# EAGLE library part CD40109 (library audioint)
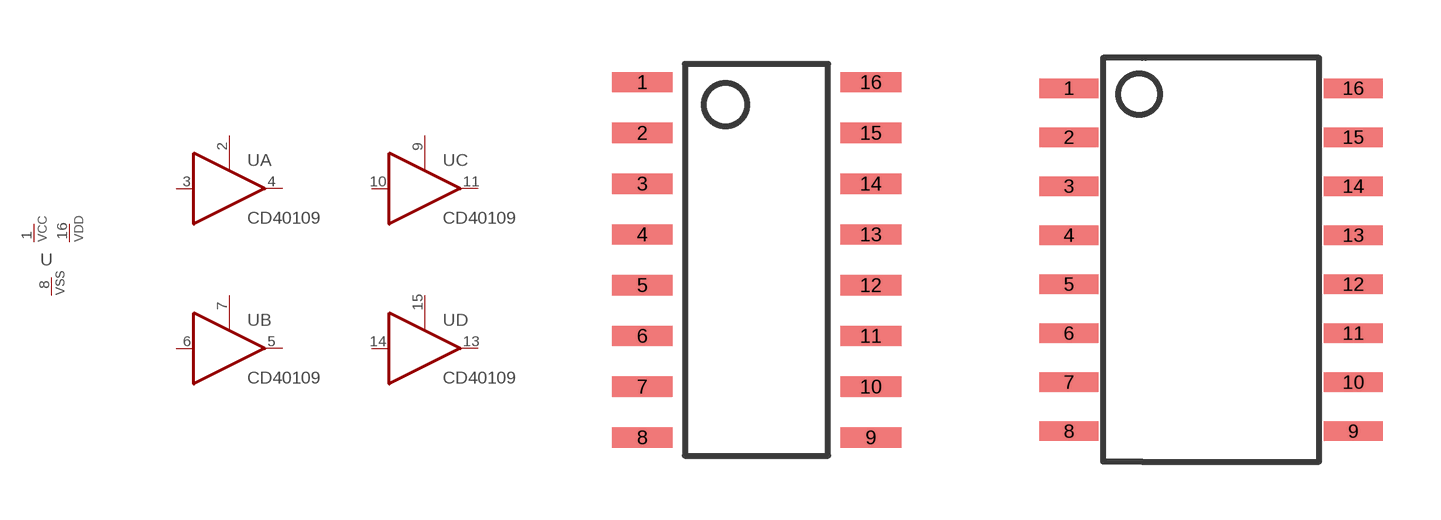
[diagram p31: symbol with the pads of 16-SOIC; footprints 16-SOIC, 16-SOIC/WIDE]

Designator prefix U; gates G$1=VCC/VSS/VDD A=74126 C=74126 D=74126 B=74126

## CD4010916-SOIC  [16-SOIC]
1  G$1:VCC  pwr
2  A:OE  in
3  A:I  in
4  A:O  out
5  B:O  out
6  B:I  in
7  B:OE  in
8  G$1:VSS  pwr
9  C:OE  in
10  C:I  in
11  C:O  out
13  D:O  out
14  D:I  in
15  D:OE  in
16  G$1:VDD  pwr

## CD40109WIDE  [16-SOIC/WIDE]
Pads as for 16-SOIC

## Footprint 16-SOIC (pad centres in mm)
smd 1.524 x 0.508: 1 -2.857,4.445; 2 -2.857,3.175; 3 -2.857,1.905; 4 -2.857,0.635; 5 -2.857,-0.635; 6 -2.857,-1.905; 7 -2.857,-3.175; 8 -2.857,-4.445; 9 2.857,-4.445; 10 2.857,-3.175; 11 2.857,-1.905; 12 2.857,-0.635; 13 2.857,0.635; 14 2.857,1.905; 15 2.857,3.175; 16 2.857,4.445

## Footprint 16-SOIC/WIDE (pad centres in mm)
smd 1.524 x 0.508: 1 -3.683,4.445; 2 -3.683,3.175; 3 -3.683,1.905; 4 -3.683,0.635; 5 -3.683,-0.635; 6 -3.683,-1.905; 7 -3.683,-3.175; 8 -3.683,-4.445; 9 3.683,-4.445; 10 3.683,-3.175; 11 3.683,-1.905; 12 3.683,-0.635; 13 3.683,0.635; 14 3.683,1.905; 15 3.683,3.175; 16 3.683,4.445